# Altium footprint library SON.PcbLib: 52 footprints (part 1 of 4)
Each footprint in its own frame and in the unit in brackets; x right, y up, seen from the top. Pads: shape width x height; smd on the part's side, far side on the other; paste and mask are expansions set on the pad; w line width, h text height; cw(c..) or ccw(c..) is an arc to the next point about the centre after c.
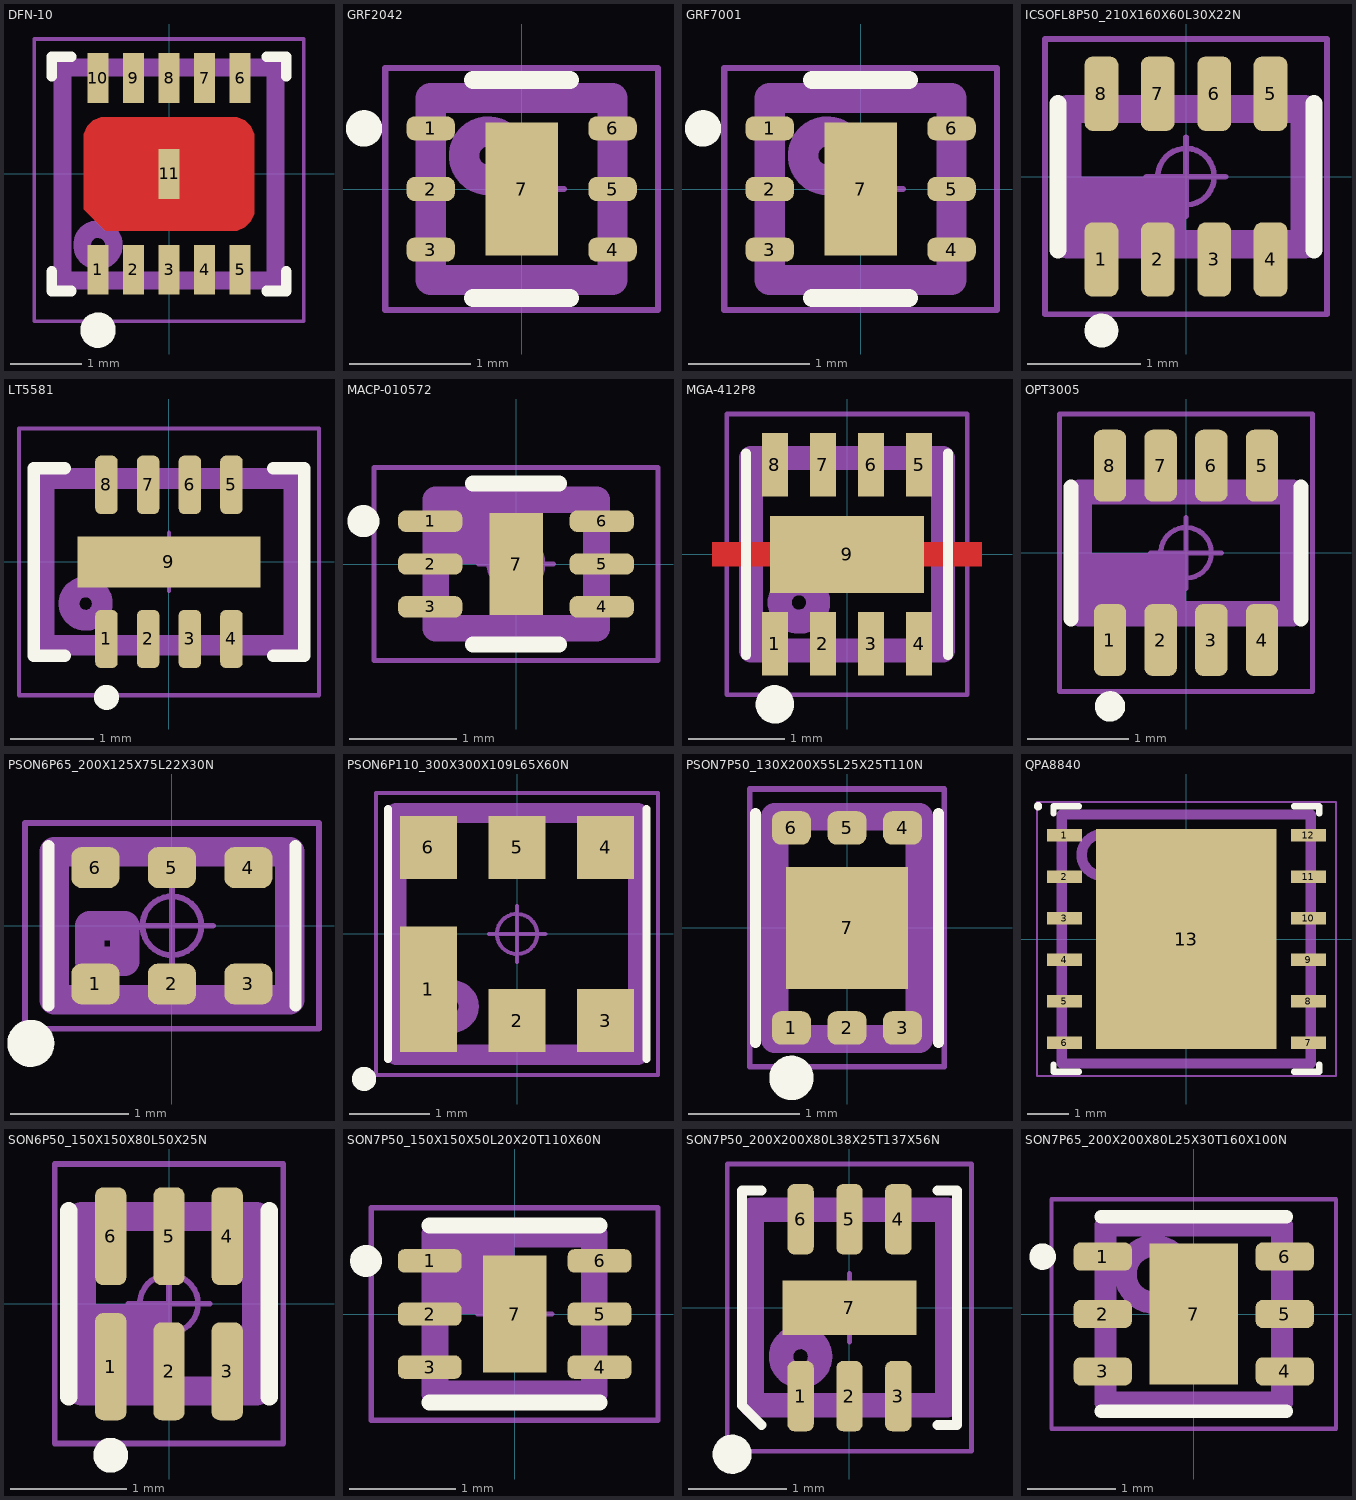
[diagram p0: the footprints below, top view; thin cyan lines are the x and y axes]

## DFN-10 [mm]
pads (11):
  rect 0.3x0.7 smd: 1(-1,-1.35) 2(-0.5,-1.35) 3(0,-1.35) 4(0.5,-1.35) 5(1,-1.35) 6(1,1.35) 7(0.5,1.35) 8(0,1.35) 9(-0.5,1.35) 10(-1,1.35) 11(0,0)
Top Layer:
  region: -1.2,0.5 -1.2,-0.5 -0.9,-0.8 0.9,-0.8 0.96,-0.8 1.07,-0.754 1.154,-0.67 1.2,-0.56 1.2,-0.5 1.2,0.5 1.2,0.56 1.154,0.67 1.07,0.754 0.96,0.8 0.9,0.8 -0.9,0.8 -0.96,0.8 -1.07,0.754 -1.154,0.67 -1.2,0.56
Top Overlay:
  circle w0.25: c-1,-2.2 r0.125
  lines w0.15: -1.65,-1.375 -1.65,-1.65 -1.375,-1.65 ; -1.65,1.375 -1.65,1.65 -1.375,1.65 ; 1.375,-1.65 1.65,-1.65 1.65,-1.375 ; 1.375,1.65 1.65,1.65 1.65,1.375
Top Assembly:
  circle w0.25: c-1,-1 r0.224
  lines w0.25: -1.5,-1.5 -1.5,1.5 1.5,1.5 1.5,-1.5 -1.5,-1.5
  text ".Designator" at -1.3,-0.3 h1.5
Top Courtyard:
  circle w0.05: c0,0 r0.3
  lines w0.05: -0.5,0 0.5,0 ; 0,-0.5 0,0.5 ; -1.9,-2.075 1.9,-2.075 1.9,1.9 -1.9,1.9 -1.9,-2.075
3D body "LTC5582.STEP": height 0.85, standoff 0, extent -1.5,-1.5 1.5,1.5

## GRF2042 [mm] "DFN 6 1.5x1.5mm Guerilla RF"
height 0.5
pads (7):
  rrect70% 0.4x0.2 smd: 1(-0.75,0.5) 2(-0.75,0) 3(-0.75,-0.5) 4(0.75,-0.5) 5(0.75,0) 6(0.75,0.5)
  rect 0.6x1.1 smd: 7(0,0)
Top Overlay:
  circle w0.2: c-1.3,0.5 r0.05
  lines w0.15: -0.4,-0.9 0.4,-0.9 ; -0.4,0.9 0.4,0.9
Top Assembly:
  circle w0.25: c-0.275,0.275 r0.2
  lines w0.25: -0.75,-0.75 0.75,-0.75 0.75,0.75 -0.75,0.75 -0.75,-0.75
  text ".Designator" at -1.5,1.2 h1.5
Top Courtyard:
  circle w0.05: c0,0 r0.25
  lines w0.05: -0.35,0 0.35,0 ; 0,-0.35 0,0.35 ; -1.125,-1 -1.125,1 1.125,1 1.125,-1 -1.125,-1
3D body "GRF7001.STEP": height 0.5, standoff 0, extent -0.8,-0.75 0.8,0.75

## GRF7001 [mm]
height 0.5
pads (7):
  rrect70% 0.4x0.2 smd: 1(-0.75,0.5) 2(-0.75,0) 3(-0.75,-0.5) 4(0.75,-0.5) 5(0.75,0) 6(0.75,0.5)
  rect 0.6x1.1 smd: 7(0,0)
Top Overlay:
  circle w0.2: c-1.3,0.5 r0.05
  lines w0.15: -0.4,-0.9 0.4,-0.9 ; -0.4,0.9 0.4,0.9
Top Assembly:
  circle w0.25: c-0.275,0.275 r0.2
  lines w0.25: -0.75,-0.75 0.75,-0.75 0.75,0.75 -0.75,0.75 -0.75,-0.75
  text ".Designator" at -1.5,1.2 h1.5
Top Courtyard:
  circle w0.05: c0,0 r0.25
  lines w0.05: -0.35,0 0.35,0 ; 0,-0.35 0,0.35 ; -1.125,-1 -1.125,1 1.125,1 1.125,-1 -1.125,-1
3D body "GRF7001.STEP": height 0.5, standoff 0, extent -0.8,-0.75 0.8,0.75

## ICSOFL8P50_210X160X60L30X22N [mm] "Integrated Circuit (IC), Small Outline Flat Lead (SOFL), 0.50 mm pitch; 8 pin, 2.10 mm L X 1.20 mm W X 0.60 mm H body"
height 0.6
pads (8):
  rrect50% 0.3x0.66 smd: 1(-0.75,-0.735) 2(-0.25,-0.735) 3(0.25,-0.735) 4(0.75,-0.735) 5(0.75,0.735) 6(0.25,0.735) 7(-0.25,0.735) 8(-0.75,0.735)
Top Overlay:
  circle w0.15: c-0.75,-1.365 r0.075
  lines w0.15: -1.135,-0.65 -1.135,0.65 ; 1.135,-0.65 1.135,0.65
Top Assembly:
  rectangle: -1.05,-0.55 0,0
  lines w0.25: -1.05,-0.6 1.05,-0.6 1.05,0.6 -1.05,0.6 -1.05,-0.6
  text ".Designator" at -3.378,1.161 h1.5
Top Courtyard:
  circle w0.05: c0,0 r0.25
  lines w0.05: -0.35,0 0.35,0 ; 0,-0.35 0,0.35 ; -1.25,-1.22 1.25,-1.22 1.25,1.22 -1.25,1.22 -1.25,-1.22
3D body "ICSOFL8P50_210X160X60L30X22.STEP": height 0.6, standoff 0, extent -1.05,-0.8 1.05,0.8

## LT5581 [mm] "DDB Package / 8-Lead Plastic DFN (3mm × 2mm) / (Reference LTC DWG # 05-08-1702 Rev B)"
height 0.8
pads (9):
  rrect50% 0.27x0.7 smd: 1(-0.75,-0.925) 2(-0.25,-0.925) 3(0.25,-0.925) 4(0.75,-0.925) 5(0.75,0.925) 6(0.25,0.925) 7(-0.25,0.925) 8(-0.75,0.925)
  rect 2.2x0.61 smd: 9(0,0)
Top Overlay:
  circle w0.25: c-0.75,-1.625 r0.025
  lines w0.15: -1.25,-1.125 -1.625,-1.125 -1.625,1.125 -1.25,1.125 ; 1.25,-1.125 1.625,-1.125 1.625,1.125 1.25,1.125
Top Assembly:
  circle w0.25: c-1,-0.5 r0.2
  lines w0.25: -1.5,-1 1.5,-1 1.5,1 -1.5,1 -1.5,-1
  text ".Designator" at -3.378,-0.339 h1.5
Top Courtyard:
  circle w0.05: c0,0 r0.25
  lines w0.05: -0.35,0 0.35,0 ; 0,-0.35 0,0.35 ; -1.8,-1.6 1.8,-1.6 1.8,1.6 -1.8,1.6 -1.8,-1.6
3D body "LT5581.STEP": height 0.8, standoff 0, extent -1.514,-1.066 1.486,1.034

## MACP-010572 [mm]
height 0.8
pads (7):
  rrect70% 0.6x0.2 smd: 1(-0.8,0.4) 2(-0.8,0) 3(-0.8,-0.4) 4(0.8,-0.4) 5(0.8,0) 6(0.8,0.4)
  rect 0.5x0.95 smd: 7(0,0)
Top Overlay:
  circle w0.2: c-1.425,0.4 r0.05
  lines w0.15: -0.4,-0.75 0.4,-0.75 ; -0.4,0.75 0.4,0.75
Top Assembly:
  rectangle: -0.75,0 0,0.6
  lines w0.25: -0.75,-0.6 0.75,-0.6 0.75,0.6 -0.75,0.6 -0.75,-0.6
  text ".Designator" at -1.675,1.1 h1.5
Top Courtyard:
  circle w0.05: c0,0 r0.25
  lines w0.05: -0.35,0 0.35,0 ; 0,-0.35 0,0.35 ; -1.325,-0.9 -1.325,0.9 1.325,0.9 1.325,-0.9 -1.325,-0.9
3D body "MACP-010572.STEP": height 0.8, standoff 0, extent -0.8,-0.6 0.8,0.6

## MGA-412P8 [mm] "Small Outline No-Lead (SON with Tab), 0.50 mm pitch; 8 pin, 2.00 mm L X 2.00 mm W X 0.80 mm H body"
height 0.8
pads (9):
  rect 0.27x0.66 smd: 1(-0.75,-0.93) 2(-0.25,-0.93) 3(0.25,-0.93) 4(0.75,-0.93) 5(0.75,0.93) 6(0.25,0.93) 7(-0.25,0.93) 8(-0.75,0.93)
  rect 1.6x0.8 smd: 9(0,0)
Top Layer:
  region: 0.8,-0.125 1.4,-0.125 1.4,0.125 0.8,0.125
  region: -0.8,0.125 -1.4,0.125 -1.4,-0.125 -0.8,-0.125
Top Overlay:
  circle w0.2: c-0.75,-1.56 r0.1
  lines w0.1: -1.05,-1.05 -1.05,1.05 ; 1.05,-1.05 1.05,1.05
Top Assembly:
  circle w0.25: c-0.5,-0.5 r0.2
  lines w0.25: -1,-1 1,-1 1,1 -1,1 -1,-1
  text ".Designator" at -1.6,1.4 h1.5
Top Courtyard:
  circle w0.05: c0,0 r0.25
  lines w0.05: -0.35,0 0.35,0 ; 0,-0.35 0,0.35 ; -1.25,-1.46 1.25,-1.46 1.25,1.46 -1.25,1.46 -1.25,-1.46
3D body "MGA-412P8.STEP": height 0.8, standoff 0, extent -1.05,-1.05 1.05,1.05

## OPT3005 [mm] "Integrated Circuit (IC), Small Outline Flat Lead (SOFL), 0.50 mm pitch; 8 pin, 2.10 mm L X 1.20 mm W X 0.60 mm H body"
height 0.6
pads (8):
  rrect50% 0.32x0.71 smd: 1(-0.75,-0.86) 2(-0.25,-0.86) 3(0.25,-0.86) 4(0.75,-0.86) 5(0.75,0.86) 6(0.25,0.86) 7(-0.25,0.86) 8(-0.75,0.86)
Top Overlay:
  circle w0.15: c-0.75,-1.515 r0.075
  lines w0.15: -1.135,-0.65 -1.135,0.65 ; 1.135,-0.65 1.135,0.65
Top Assembly:
  rectangle: -1.05,-0.6 0,0
  lines w0.25: -1.05,-0.6 1.05,-0.6 1.05,0.6 -1.05,0.6 -1.05,-0.6
  text ".Designator" at -3.428,1.061 h1.5
Top Courtyard:
  circle w0.05: c0,0 r0.25
  lines w0.05: -0.35,0 0.35,0 ; 0,-0.35 0,0.35 ; -1.25,-1.37 1.25,-1.37 1.25,1.37 -1.25,1.37 -1.25,-1.37
3D body "OPT3005.STEP": height 0.6, standoff 0, extent -1.05,-0.95 1.05,0.95

## PSON6P65_200X125X75L22X30N [mm] "Pullback Small Outline No-Lead (PSON), 0.65 mm pitch; 6 pin, 2.00 mm L X 1.25 mm W X 0.75 mm H body"
height 0.75
pads (6):
  rrect51% 0.41x0.35 smd: 1(-0.65,-0.495) 2(0,-0.495) 3(0.65,-0.495) 4(0.65,0.495) 5(0,0.495) 6(-0.65,0.495)
Top Overlay:
  circle w0.2: c-1.2,-1 r0.1
  lines w0.1: -1.05,-0.68 -1.05,0.68 ; 1.05,-0.68 1.05,0.68
Top Assembly:
  lines w0.25: -1,-0.63 1,-0.63 1,0.63 -1,0.63 -1,-0.63 ; -0.7,-0.3 -0.4,-0.3 -0.4,0 -0.7,0 -0.7,-0.3
  text ".Designator" at -1.5,1 h1.5
Top Courtyard:
  circle w0.05: c0,0 r0.25
  lines w0.05: -0.35,0 0.35,0 ; 0,-0.35 0,0.35 ; -1.25,-0.875 1.25,-0.875 1.25,0.875 -1.25,0.875 -1.25,-0.875
3D body "PSON6P65_200X125X75L22X30.STEP": height 0.75, standoff 0, extent -1,-0.625 1,0.625

## PSON6P110_300X300X109L65X60N [mm] "Pullback Small Outline No-Lead (PSON), 1.10 mm pitch; 6 pin, 3.00 mm L X 3.00 mm W X 1.09 mm H body"
height 1.09
pads (6):
  rect 0.71x1.56 smd: 1(-1.1,-0.685)
  rect 0.71x0.78 smd: 2(0,-1.075) 3(1.1,-1.075) 4(1.1,1.075) 5(0,1.075) 6(-1.1,1.075)
Top Overlay:
  circle w0.15: c-1.9,-1.8 r0.075
  lines w0.1: -1.605,-1.55 -1.605,1.55 ; 1.605,-1.55 1.605,1.55
Top Assembly:
  circle w0.25: c-0.8,-0.9 r0.2
  lines w0.25: -1.5,-1.5 -1.5,1.5 1.5,1.5 1.5,-1.5 -1.5,-1.5
  text ".Designator" at -1.3,-0.3 h1.5
Top Courtyard:
  circle w0.05: c0,0 r0.25
  lines w0.05: -0.35,0 0.35,0 ; 0,-0.35 0,0.35 ; -1.75,-1.75 -1.75,1.75 1.75,1.75 1.75,-1.75 -1.75,-1.75
3D body "PSON6P110_300X300X109L65X60.STEP": height 1.09, standoff 0, extent -1.5,-1.5 1.5,1.5

## PSON7P50_130X200X55L25X25T110N [mm] "Pullback Small Outline No-Lead (PSON with Tab), 0.50 mm pitch; 6 pin, 1.30 mm L X 2.00 mm W X 0.55 mm H body"
height 0.55
pads (7):
  rrect53% 0.35x0.3 smd: 1(-0.5,-0.9) 2(0,-0.9) 3(0.5,-0.9) 4(0.5,0.9) 5(0,0.9) 6(-0.5,0.9)
  rect 1.1x1.1 smd paste-0.161: 7(0,0)
Top Overlay:
  circle w0.2: c-0.5,-1.35 r0.1
  lines w0.1: -0.825,-1.03 -0.825,1.03 ; 0.825,-1.03 0.825,1.03
Top Assembly:
  lines w0.25: -0.65,-1 0.65,-1 0.65,1 -0.65,1 -0.65,-1
  text ".Designator" at -1.5,1.4 h1.5
Top Courtyard:
  circle w0.05: c0,0 r0.25
  lines w0.05: -0.35,0 0.35,0 ; 0,-0.35 0,0.35 ; -0.875,-1.25 0.875,-1.25 0.875,1.25 -0.875,1.25 -0.875,-1.25
3D body "PSON7P50_130X200X55L25X25T110.STEP": height 0.55, standoff 0, extent -0.65,-1.05 0.65,1.05

## QPA8840 [mm] "SON, 12-Leads, Body 6.00x6.00mm, Pitch 1.00mm, Thermal Pad 5.30x4.35mm, IPC Medium Density"
height 1.2
pads (13):
  rect 0.85x0.3 smd: 1(-2.94,2.5) 2(-2.94,1.5) 3(-2.94,0.5) 4(-2.94,-0.5) 5(-2.94,-1.5) 6(-2.94,-2.5) 7(2.94,-2.5) 8(2.94,-1.5) 9(2.94,-0.5) 10(2.94,0.5) 11(2.94,1.5) 12(2.94,2.5)
  rect 4.35x5.3 smd paste-2539.97: 13(0,0)
Top Overlay:
  circle w0.1: c-3.575,3.2 r0.05
  lines w0.15: -3.2,-3.025 -3.2,-3.2 -2.59,-3.2 ; -3.2,3.025 -3.2,3.2 -2.59,3.2 ; 2.59,-3.2 3.2,-3.2 3.2,-3.025 ; 2.59,3.2 3.2,3.2 3.2,3.025
Top Paste:
  rectangle: 0.825,-2.56 2.075,-1.43
  rectangle: 0.825,-1.23 2.075,-0.1
  rectangle: 0.825,0.1 2.075,1.23
  rectangle: 0.825,1.43 2.075,2.56
  rectangle: -0.625,-2.56 0.625,-1.43
  rectangle: -0.625,-1.23 0.625,-0.1
  rectangle: -0.625,0.1 0.625,1.23
  rectangle: -0.625,1.43 0.625,2.56
  rectangle: -2.075,-2.56 -0.825,-1.43
  rectangle: -2.075,-1.23 -0.825,-0.1
  rectangle: -2.075,0.1 -0.825,1.23
  rectangle: -2.075,1.43 -0.825,2.56
Top Assembly:
  circle w0.25: c-2.025,2.025 r0.5
  lines w0.25: -3,-3 3,-3 3,3 -3,3 -3,-3
  text ".Designator" at -2.55,-0.93 h2.5
Top Courtyard:
  circle w0.05: c0,0 r0.3
  lines w0.05: -0.5,0 0.5,0 ; 0,-0.5 0,0.5 ; -3.605,-3.3 3.605,-3.3 3.605,3.3 -3.605,3.3 -3.605,-3.3
3D body "QPA8840.step": height 1.2, standoff 0, extent -3.1,-3 3.1,3

## SON6P50_150X150X80L50X25N [mm] "Small Outline No-Lead (SON), 0.50 mm pitch; 6 pin, 1.50 mm L X 1.50 mm W X 0.80 mm H body"
height 0.8
pads (6):
  rrect52% 0.27x0.92 smd: 1(-0.5,-0.54)
  rrect52% 0.27x0.84 smd: 2(0,-0.58) 3(0.5,-0.58) 4(0.5,0.58) 5(0,0.58) 6(-0.5,0.58)
Top Overlay:
  circle w0.15: c-0.5,-1.3 r0.075
  lines w0.15: -0.86,-0.8 -0.86,0.8 ; 0.86,-0.8 0.86,0.8
Top Assembly:
  rectangle: -0.75,-0.75 0,0
  lines w0.25: -0.75,-0.75 0.75,-0.75 0.75,0.75 -0.75,0.75 -0.75,-0.75
  text ".Designator" at 0,0 h1.5
Top Courtyard:
  circle w0.05: c0,0 r0.25
  lines w0.05: -0.35,0 0.35,0 ; 0,-0.35 0,0.35 ; -0.98,-1.2 0.98,-1.2 0.98,1.2 -0.98,1.2 -0.98,-1.2
3D body "SON6P50_150X150X80L50X25.STEP": height 0.8, standoff 0, extent -0.75,-0.8 0.75,0.8

## SON7P50_150X150X50L20X20T110X60N [mm] "Small Outline No-Lead (SON with Tab), 0.50 mm pitch; 6 pin, 1.50 mm L X 1.50 mm W X 0.50 mm H body"
height 0.5
pads (7):
  rrect55% 0.6x0.22 smd: 1(-0.8,0.5) 2(-0.8,0) 3(-0.8,-0.5) 4(0.8,-0.5) 5(0.8,0) 6(0.8,0.5)
  rect 0.6x1.1 smd: 7(0,0)
Top Overlay:
  circle w0.15: c-1.4,0.5 r0.075
  lines w0.15: -0.8,-0.835 0.8,-0.835 ; -0.8,0.835 0.8,0.835
Top Assembly:
  rectangle: -0.8,0 0,0.7
  lines w0.25: -0.75,-0.75 -0.75,0.75 0.75,0.75 0.75,-0.75 -0.75,-0.75
  text ".Designator" at -3.378,1.061 h1.5
Top Courtyard:
  circle w0.05: c0,0 r0.25
  lines w0.05: -0.35,0 0.35,0 ; 0,-0.35 0,0.35 ; -1.35,-1 -1.35,1 1.35,1 1.35,-1 -1.35,-1
3D body "SON7P50_150X150X50L20X20T110X60.STEP": height 0.5, standoff 0, extent -0.8,-0.75 0.8,0.75

## SON7P50_200X200X80L38X25T137X56N [mm] "Small Outline No-Lead (SON with Tab), 0.50 mm pitch; 6 pin, 2.00 mm L X 2.00 mm W X 0.80 mm H body"
height 0.8
pads (7):
  rrect52% 0.27x0.72 smd: 1(-0.5,-0.905) 2(0,-0.905) 3(0.5,-0.905) 4(0.5,0.905) 5(0,0.905) 6(-0.5,0.905)
  rect 1.37x0.56 smd: 7(0,0)
Top Overlay:
  circle w0.2: c-1.2,-1.5 r0.1
  lines w0.1: -0.9,-1.2 -1.1,-1 -1.1,1.2 -0.9,1.2 ; 0.9,-1.2 1.1,-1.2 1.1,1.2 0.9,1.2
Top Assembly:
  circle w0.25: c-0.5,-0.5 r0.2
  lines w0.25: -1,-1 1,-1 1,1 -1,1 -1,-1
  text ".Designator" at -2.1,1.5 h1.5
Top Courtyard:
  circle w0.05: c0,0 r0.25
  lines w0.05: -0.35,0 0.35,0 ; 0,-0.35 0,0.35 ; -1.25,-1.47 1.25,-1.47 1.25,1.47 -1.25,1.47 -1.25,-1.47
3D body "SON7P50_200X200X80L38X25T137X56.STEP": height 0.8, standoff 0, extent -1,-1.05 1,1.05

## SON7P65_200X200X80L25X30T160X100N [mm] "Small Outline No-Lead (SON with Tab), 0.65 mm pitch; 6 pin, 2.00 mm L X 2.00 mm W X 0.80 mm H body"
height 0.8
pads (7):
  rrect50% 0.66x0.32 smd: 1(-1.03,0.65) 2(-1.03,0) 3(-1.03,-0.65) 4(1.03,-0.65) 5(1.03,0) 6(1.03,0.65)
  rect 1x1.6 smd paste-1.6: 7(0,0)
Top Overlay:
  circle w0.15: c-1.71,0.65 r0.075
  lines w0.15: -1.05,-1.1 1.05,-1.1 ; -1.05,1.1 1.05,1.1
Top Paste:
  region: -0.355,-0.725 -0.355,-0.075 0.355,-0.075 0.355,-0.725
  region: -0.355,0.075 -0.355,0.725 0.355,0.725 0.355,0.075
Top Assembly:
  circle w0.25: c-0.45,0.45 r0.32
  lines w0.25: -1,-1 -1,1 1,1 1,-1 -1,-1
  text ".Designator" at -3.378,-0.339 h1.5
Top Courtyard:
  circle w0.05: c0,0 r0.25
  lines w0.05: -0.35,0 0.35,0 ; 0,-0.35 0,0.35 ; -1.61,-1.3 -1.61,1.3 1.61,1.3 1.61,-1.3 -1.61,-1.3
3D body "SON7P65_200X200X80L25X30T160X100.STEP": height 0.8, standoff 0, extent -1.05,-1 1.05,1